# Altium schematic symbol library C5182313.SchLib: 1 symbol
Pins are listed as number, name and electrical type; pins without a type are passive.

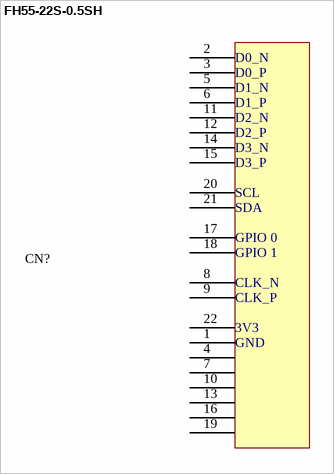
[diagram p0: symbol FH55-22S-0.5SH]

## FH55-22S-0.5SH
designator CN?  (value not drawn)
Flip-Top -55â„ƒ~+85â„ƒ 22P 0.5mm 500mA 50V Gold Surface Mount, Right Angle Phosphor bronze SMD,P=0.5mm FFC, FPC (Flat Flexible) Connector Assemblies RoHS; Name: C5182313; Source: LCSC
footprint FPC-SMD_22P-P0.50_FH55-22S-0.5SH (Flip-Top -55?~+85? 22P 0.5mm 500mA 50V Gold Surface Mount, Right Angle Phosphor bronze SMD,P=0.5mm FFC, FPC (Flat Flexible) Connector Assemblies RoHS)
pins: 1 GND, 2 DATA 0_N, 3 DATA 0_P, 4 GND, 5 DATA 1_N, 6 DATA 1_P, 7 GND, 8 CLK_N, 9 CLK_P, 10 GND, 11 DATA 2_N, 12 DATA 2_P, 13 GND, 14 DATA 3_N, 15 DATA 3_P, 16 GND, 17 GPIO 0, 18 GPIO 1, 19 GND, 20 SCL, 21 SDA, 22 PWR
text: D0_N; D0_P; D1_N; D1_P; D2_N; D2_P; D3_N; D3_P; 3V3